# Altium integrated library Altera Arria V GZ.IntLib: 32 symbols (part 9 of 36)
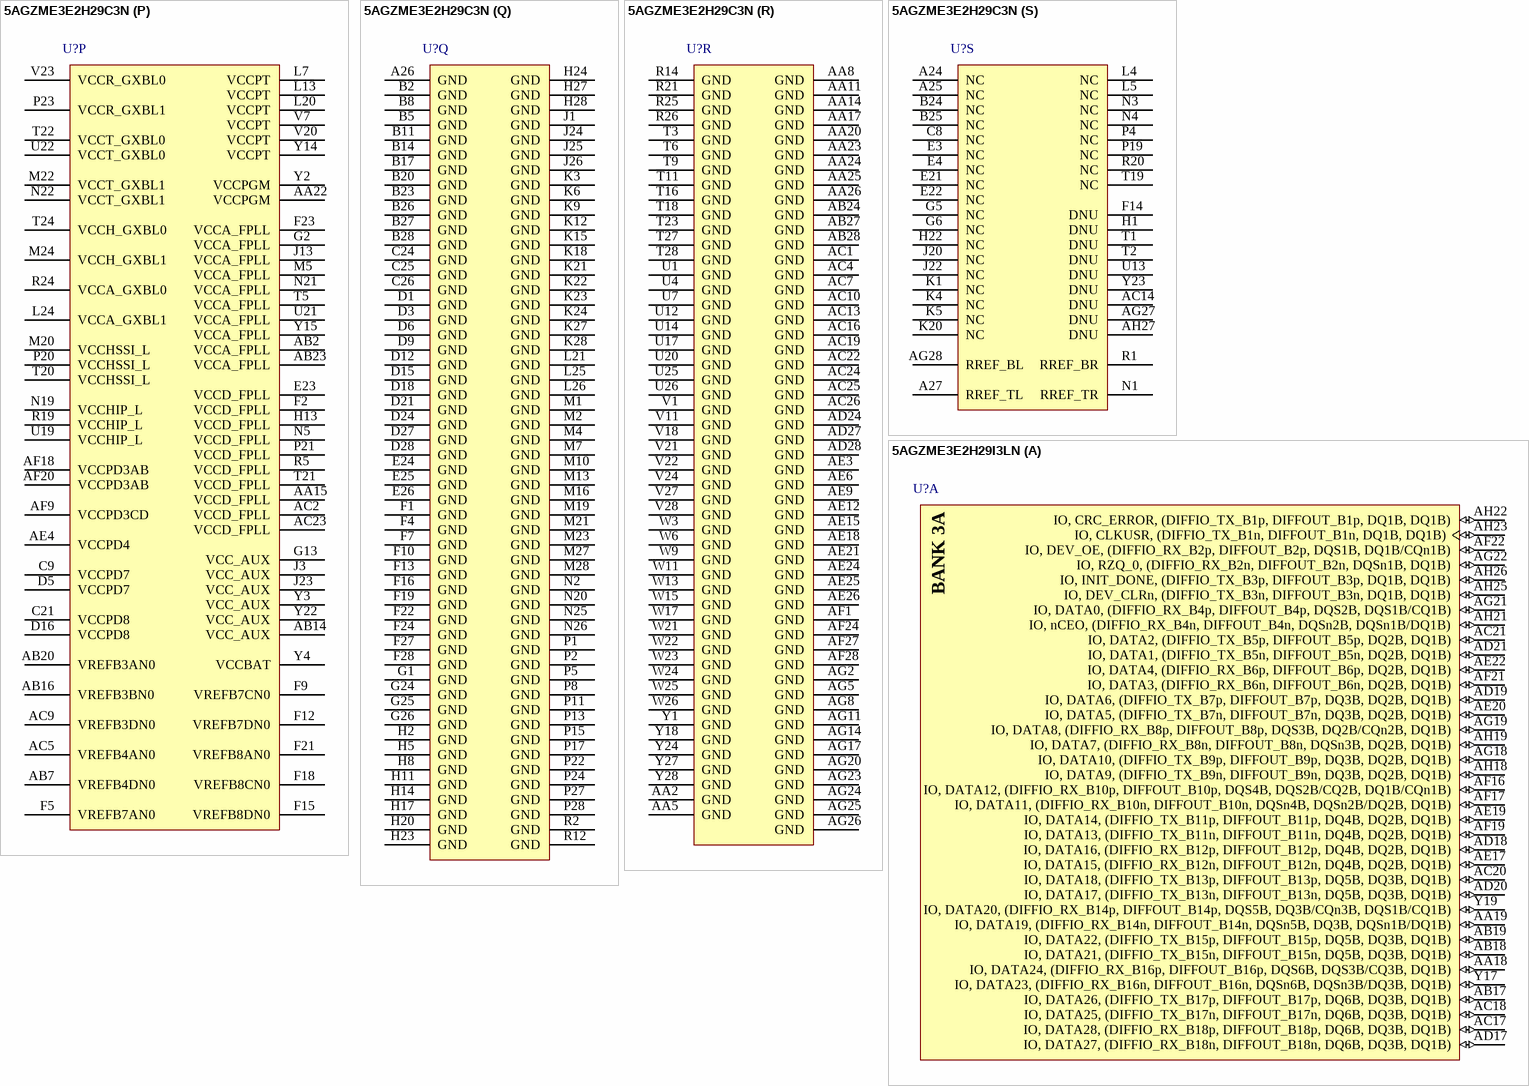
[diagram p209: symbols 5AGZME3E2H29C3N to 5AGZME3E2H29I3LN]

## 5AGZME3E2H29C3N
designator U?
Arria V GZ Family FPGA, 0.82 to 0.88 V Supply, 342 I/O Pins, 20 PLLs, 780-Pin HBGA, Speed Grade 3, Commercial Grade, RoHS Compliant; Manufacturer: Altera; Device Group: 5AGZME3; GPIO: 342; Logic Elements (LE) (K): 360; NexusDeviceID: 5AGZME3E2H29C3N; Pb-Free: TRUE; Speed Grade: 3; DatasheetVersion: Rev. 3.5; PackageVersion: Rev. 3.0, 07/2012; PackageReference: HBGA780_A-360; PackageDescription: 780-Pin Hybrid FineLine Ball-Grid Array (HBGA), Body 33 x 33 mm, Pitch 1 mm; Supplier 1: Digi-Key; Supplier Part Number 1: 5AGZME3E2H29C3N-ND; Supplier 2: Mouser; Supplier Part Number 2: 989-5AGZME3E2H29C3N; RoHS: RoHS Compliant; Subcategory: Arria V GZ; Voltage Supply: 0.82 to 0.88 V; Mounting Technology: Surface Mount; Code_JEDEC: MS-034; PartNumber: 5AGZME3E2H29C3N; ComponentLink1Description: Manufacturer URL; ComponentLink1URL: http://www.altera.com; ComponentLink2Description: Datasheet; ComponentLink2URL: http://www.altera.com/literature/hb/arria-v/av_51002.pdf; ComponentLink3Description: Package Specification; ComponentLink3URL: http://www.altera.com/devicepackaging/04R00443-02.pdf; ComponentLink4Description: Device Handbook URL; ComponentLink4URL: http://www.altera.com/literature/hb/arria-v/arriav_handbook.pdf; ComponentLink5Description: Device Overview URL; ComponentLink5URL: http://www.altera.com/literature/hb/arria-v/av_51001.pdf; ComponentLink6Description: Device Pin-Out URL; ComponentLink6URL: http://www.altera.com/literature/dp/arria-v/5AGZME3.xls; ComponentLink7Description: Product URL; ComponentLink7URL: http://www.buyaltera.com/scripts/partsearch.dll?Detail&name=5AGZME3E2H29C3N-ND
footprint ALTR-HBGA780_A-360 (BGA, 780-Balls, Body 33x33mm, Pitch 1mm)
part A pins: AA18 IO, DATA24, (DIFFIO_RX_B16p, DIFFOUT_B16p, DQS6B, DQS3B/CQ3B, DQ1B) (io), AA19 IO, DATA19, (DIFFIO_RX_B14n, DIFFOUT_B14n, DQSn5B, DQ3B, DQSn1B/DQ1B) (io), AB17 IO, DATA26, (DIFFIO_TX_B17p, DIFFOUT_B17p, DQ6B, DQ3B, DQ1B) (io), AB18 IO, DATA21, (DIFFIO_TX_B15n, DIFFOUT_B15n, DQ5B, DQ3B, DQ1B) (io), AB19 IO, DATA22, (DIFFIO_TX_B15p, DIFFOUT_B15p, DQ5B, DQ3B, DQ1B) (io), AC17 IO, DATA28, (DIFFIO_RX_B18p, DIFFOUT_B18p, DQ6B, DQ3B, DQ1B) (io), AC18 IO, DATA25, (DIFFIO_TX_B17n, DIFFOUT_B17n, DQ6B, DQ3B, DQ1B) (io), AC20 IO, DATA18, (DIFFIO_TX_B13p, DIFFOUT_B13p, DQ5B, DQ3B, DQ1B) (io), AC21 IO, DATA2, (DIFFIO_TX_B5p, DIFFOUT_B5p, DQ2B, DQ1B) (io), AD17 IO, DATA27, (DIFFIO_RX_B18n, DIFFOUT_B18n, DQ6B, DQ3B, DQ1B) (io), AD18 IO, DATA16, (DIFFIO_RX_B12p, DIFFOUT_B12p, DQ4B, DQ2B, DQ1B) (io), AD19 IO, DATA6, (DIFFIO_TX_B7p, DIFFOUT_B7p, DQ3B, DQ2B, DQ1B) (io), AD20 IO, DATA17, (DIFFIO_TX_B13n, DIFFOUT_B13n, DQ5B, DQ3B, DQ1B) (io), AD21 IO, DATA1, (DIFFIO_TX_B5n, DIFFOUT_B5n, DQ2B, DQ1B) (io), AE17 IO, DATA15, (DIFFIO_RX_B12n, DIFFOUT_B12n, DQ4B, DQ2B, DQ1B) (io), AE19 IO, DATA14, (DIFFIO_TX_B11p, DIFFOUT_B11p, DQ4B, DQ2B, DQ1B) (io), AE20 IO, DATA5, (DIFFIO_TX_B7n, DIFFOUT_B7n, DQ3B, DQ2B, DQ1B) (io), AE22 IO, DATA4, (DIFFIO_RX_B6p, DIFFOUT_B6p, DQ2B, DQ1B) (io), AF16 IO, DATA12, (DIFFIO_RX_B10p, DIFFOUT_B10p, DQS4B, DQS2B/CQ2B, DQ1B/CQn1B) (io), AF17 IO, DATA11, (DIFFIO_RX_B10n, DIFFOUT_B10n, DQSn4B, DQSn2B/DQ2B, DQ1B) (io), AF19 IO, DATA13, (DIFFIO_TX_B11n, DIFFOUT_B11n, DQ4B, DQ2B, DQ1B) (io), AF21 IO, DATA3, (DIFFIO_RX_B6n, DIFFOUT_B6n, DQ2B, DQ1B) (io), AF22 IO, DEV_OE, (DIFFIO_RX_B2p, DIFFOUT_B2p, DQS1B, DQ1B/CQn1B) (io), AG18 IO, DATA10, (DIFFIO_TX_B9p, DIFFOUT_B9p, DQ3B, DQ2B, DQ1B) (io), AG19 IO, DATA8, (DIFFIO_RX_B8p, DIFFOUT_B8p, DQS3B, DQ2B/CQn2B, DQ1B) (io), AG21 IO, DATA0, (DIFFIO_RX_B4p, DIFFOUT_B4p, DQS2B, DQS1B/CQ1B) (io), AG22 IO, RZQ_0, (DIFFIO_RX_B2n, DIFFOUT_B2n, DQSn1B, DQ1B) (io), AH18 IO, DATA9, (DIFFIO_TX_B9n, DIFFOUT_B9n, DQ3B, DQ2B, DQ1B) (io), AH19 IO, DATA7, (DIFFIO_RX_B8n, DIFFOUT_B8n, DQSn3B, DQ2B, DQ1B) (io), AH21 IO, nCEO, (DIFFIO_RX_B4n, DIFFOUT_B4n, DQSn2B, DQSn1B/DQ1B) (io), AH22 IO, CRC_ERROR, (DIFFIO_TX_B1p, DIFFOUT_B1p, DQ1B, DQ1B) (io), AH23 IO, CLKUSR, (DIFFIO_TX_B1n, DIFFOUT_B1n, DQ1B, DQ1B) (io), AH25 IO, DEV_CLRn, (DIFFIO_TX_B3n, DIFFOUT_B3n, DQ1B, DQ1B) (io), AH26 IO, INIT_DONE, (DIFFIO_TX_B3p, DIFFOUT_B3p, DQ1B, DQ1B) (io), Y17 IO, DATA23, (DIFFIO_RX_B16n, DIFFOUT_B16n, DQSn6B, DQSn3B/DQ3B, DQ1B) (io), Y19 IO, DATA20, (DIFFIO_RX_B14p, DIFFOUT_B14p, DQS5B, DQ3B/CQn3B, DQS1B/CQ1B) (io)
part B pins: AA10 IO, (DIFFIO_RX_B42p, DIFFOUT_B42p, DQ14B, DQ7B, DQ3B, DQ1B) (io), AA12 IO, (DIFFIO_TX_B37p, DIFFOUT_B37p, DQ13B, DQ7B, DQ3B, DQ1B) (io), AA13 IO, (DIFFIO_TX_B35p, DIFFOUT_B35p, DQ12B, DQ6B, DQ3B, DQ1B) (io), AA16 IO, (DIFFIO_TX_B31p, DIFFOUT_B31p, DQ11B, DQ6B, DQ3B, DQ1B) (io), AB10 IO, (DIFFIO_RX_B40n, DIFFOUT_B40n, DQSn14B, DQSn7B/DQ7B, DQ3B, DQ1B) (io), AB11 IO, (DIFFIO_RX_B40p, DIFFOUT_B40p, DQS14B, DQS7B/CQ7B, DQ3B, DQ1B) (io), AB12 IO, (DIFFIO_RX_B36n, DIFFOUT_B36n, DQ12B, DQ6B, DQ3B, DQ1B) (io), AB13 IO, (DIFFIO_RX_B36p, DIFFOUT_B36p, DQ12B, DQ6B, DQ3B, DQ1B) (io), AB15 IO, (DIFFIO_RX_B32p, DIFFOUT_B32p, DQS11B, DQ6B/CQn6B, DQ3B, DQS1B/CQ1B) (io), AC11 IO, (DIFFIO_TX_B39p, DIFFOUT_B39p, DQ13B, DQ7B, DQ3B, DQ1B) (io), AC12 IO, (DIFFIO_RX_B38p, DIFFOUT_B38p, DQS13B, DQ7B/CQn7B, DQS3B/CQ3B, DQ1B) (io), AC15 IO, (DIFFIO_RX_B32n, DIFFOUT_B32n, DQSn11B, DQ6B, DQ3B, DQSn1B/DQ1B) (io), AD9 IO, (DIFFIO_TX_B41n, DIFFOUT_B41n, DQ14B, DQ7B, DQ3B, DQ1B) (io), AD10 IO, (DIFFIO_TX_B41p, DIFFOUT_B41p, DQ14B, DQ7B, DQ3B, DQ1B) (io), AD11 IO, (DIFFIO_TX_B39n, DIFFOUT_B39n, DQ13B, DQ7B, DQ3B, DQ1B) (io), AD12 IO, (DIFFIO_RX_B38n, DIFFOUT_B38n, DQSn13B, DQ7B, DQSn3B/DQ3B, DQ1B) (io), AD13 IO, (DIFFIO_RX_B34p, DIFFOUT_B34p, DQS12B, DQS6B/CQ6B, DQ3B/CQn3B, DQ1B) (io), AD14 IO, (DIFFIO_RX_B34n, DIFFOUT_B34n, DQSn12B, DQSn6B/DQ6B, DQ3B, DQ1B) (io), AD15 IO, (DIFFIO_TX_B33p, DIFFOUT_B33p, DQ11B, DQ6B, DQ3B, DQ1B) (io), AD16 IO, (DIFFIO_TX_B33n, DIFFOUT_B33n, DQ11B, DQ6B, DQ3B, DQ1B) (io), AE10 IO, CLK2n, (DIFFIO_RX_B28n, DIFFOUT_B28n, DQSn10B, DQSn5B/DQ5B, DQ2B, DQ1B) (io), AE11 IO, CLK2p, (DIFFIO_RX_B28p, DIFFOUT_B28p, DQS10B, DQS5B/CQ5B, DQ2B, DQ1B/CQn1B) (io), AE13 IO, CLK0p, (DIFFIO_RX_B22p, DIFFOUT_B22p, DQS8B, DQS4B/CQ4B, DQ2B/CQn2B, DQ1B) (io), AE14 IO, CLK1p, (DIFFIO_RX_B24p, DIFFOUT_B24p, DQ8B, DQ4B, DQ2B, DQ1B) (io), AE16 IO, CvP_CONFDONE, (DIFFIO_TX_B23p, DIFFOUT_B23p, DQ8B, DQ4B, DQ2B, DQ1B) (io), AF10 IO, (DIFFIO_TX_B29p, DIFFOUT_B29p, DQ10B, DQ5B, DQ2B, DQ1B) (io), AF11 IO, FPLL_BL_CLKOUT3, FPLL_BL_FBn, (DIFFIO_RX_B26n, DIFFOUT_B26n, DQSn9B, DQ5B, DQSn2B/DQ2B, DQ1B) (io), AF12 IO, FPLL_BL_CLKOUT2, FPLL_BL_FBp, FPLL_BL_FB1, (DIFFIO_RX_B26p, DIFFOUT_B26p, DQS9B, DQ5B/CQn5B, DQS2B/CQ2B, DQ1B) (io), AF13 IO, CLK0n, (DIFFIO_RX_B22n, DIFFOUT_B22n, DQSn8B, DQSn4B/DQ4B, DQ2B, DQ1B) (io), AF14 IO, CLK1n, (DIFFIO_RX_B24n, DIFFOUT_B24n, DQ8B, DQ4B, DQ2B, DQ1B) (io), AF15 IO, PR_ERROR, (DIFFIO_TX_B23n, DIFFOUT_B23n, DQ8B, DQ4B, DQ2B, DQ1B) (io), AG9 IO, CLK3p, (DIFFIO_RX_B30p, DIFFOUT_B30p, DQ10B, DQ5B, DQ2B, DQ1B) (io), AG10 IO, (DIFFIO_TX_B29n, DIFFOUT_B29n, DQ10B, DQ5B, DQ2B, DQ1B) (io), AG12 IO, FPLL_BL_CLKOUT0, FPLL_BL_CLKOUTp, FPLL_BL_FB0, (DIFFIO_TX_B25p, DIFFOUT_B25p, DQ9B, DQ5B, DQ2B, DQ1B) (io), AG13 IO, PR_READY, (DIFFIO_TX_B21p, DIFFOUT_B21p, DQ7B, DQ4B, DQ2B, DQ1B) (io), AG15 IO, PR_DONE, (DIFFIO_RX_B20p, DIFFOUT_B20p, DQS7B, DQ4B/CQn4B, DQ2B, DQ1B) (io), AG16 IO, DATA30, (DIFFIO_TX_B19p, DIFFOUT_B19p, DQ7B, DQ4B, DQ2B, DQ1B) (io), AH9 IO, CLK3n, (DIFFIO_RX_B30n, DIFFOUT_B30n, DQ10B, DQ5B, DQ2B, DQ1B) (io), AH10 IO, (DIFFIO_TX_B27p, DIFFOUT_B27p, DQ9B, DQ5B, DQ2B, DQ1B) (io), AH11 IO, nPERSTL0, (DIFFIO_TX_B27n, DIFFOUT_B27n, DQ9B, DQ5B, DQ2B, DQ1B) (io), AH12 IO, FPLL_BL_CLKOUT1, FPLL_BL_CLKOUTn, (DIFFIO_TX_B25n, DIFFOUT_B25n, DQ9B, DQ5B, DQ2B, DQ1B) (io), AH13 IO, PR_REQUEST, (DIFFIO_TX_B21n, DIFFOUT_B21n, DQ7B, DQ4B, DQ2B, DQ1B) (io), AH15 IO, DATA31, (DIFFIO_RX_B20n, DIFFOUT_B20n, DQSn7B, DQ4B, DQ2B, DQ1B) (io), AH16 IO, DATA29, (DIFFIO_TX_B19n, DIFFOUT_B19n, DQ7B, DQ4B, DQ2B, DQ1B) (io), Y11 IO, (DIFFIO_RX_B42n, DIFFOUT_B42n, DQ14B, DQ7B, DQ3B, DQ1B) (io), Y12 IO, (DIFFIO_TX_B37n, DIFFOUT_B37n, DQ13B, DQ7B, DQ3B, DQ1B) (io), Y13 IO, (DIFFIO_TX_B35n, DIFFOUT_B35n, DQ12B, DQ6B, DQ3B, DQ1B) (io), Y16 IO, (DIFFIO_TX_B31n, DIFFOUT_B31n, DQ11B, DQ6B, DQ3B, DQ1B) (io)
part C pins: AA9 IO, (DIFFIO_TX_B75p, DIFFOUT_B75p, DQ25B, DQ9B, DQ4B) (io), AB8 IO, (DIFFIO_RX_B70p, DIFFOUT_B70p, DQS24B, DQS8B/CQ8B, DQ4B/CQn4B) (io), AB9 IO, (DIFFIO_TX_B75n, DIFFOUT_B75n, DQ25B, DQ9B, DQ4B) (io), AC8 IO, (DIFFIO_RX_B70n, DIFFOUT_B70n, DQSn24B, DQSn8B/DQ8B, DQ4B) (io), AD7 IO, (DIFFIO_RX_B72p, DIFFOUT_B72p, DQ24B, DQ8B, DQ4B) (io), AD8 IO, (DIFFIO_TX_B71p, DIFFOUT_B71p, DQ24B, DQ8B, DQ4B) (io), AE7 IO, (DIFFIO_RX_B72n, DIFFOUT_B72n, DQ24B, DQ8B, DQ4B) (io), AE8 IO, (DIFFIO_TX_B71n, DIFFOUT_B71n, DQ24B, DQ8B, DQ4B) (io), AF7 IO, (DIFFIO_RX_B68n, DIFFOUT_B68n, DQSn23B, DQ8B, DQ4B) (io), AF8 IO, (DIFFIO_RX_B68p, DIFFOUT_B68p, DQS23B, DQ8B/CQn8B, DQ4B) (io), AG6 IO, (DIFFIO_TX_B67p, DIFFOUT_B67p, DQ23B, DQ8B, DQ4B) (io), AG7 IO, (DIFFIO_TX_B69p, DIFFOUT_B69p, DQ23B, DQ8B, DQ4B) (io), AH6 IO, (DIFFIO_TX_B67n, DIFFOUT_B67n, DQ23B, DQ8B, DQ4B) (io), AH7 IO, (DIFFIO_TX_B69n, DIFFOUT_B69n, DQ23B, DQ8B, DQ4B) (io), U8 IO, (DIFFIO_RX_B74p, DIFFOUT_B74p, DQS25B, DQ9B/CQn9B, DQS4B/CQ4B) (io), U9 IO, CLK4p, (DIFFIO_RX_B76p, DIFFOUT_B76p, DQS26B, DQS9B/CQ9B, DQ4B) (io), V8 IO, (DIFFIO_RX_B74n, DIFFOUT_B74n, DQSn25B, DQ9B, DQSn4B/DQ4B) (io), V9 IO, CLK4n, (DIFFIO_RX_B76n, DIFFOUT_B76n, DQSn26B, DQSn9B/DQ9B, DQ4B) (io), V10 IO, CLK5n, (DIFFIO_RX_B78n, DIFFOUT_B78n, DQ26B, DQ9B, DQ4B) (io), W8 IO, (DIFFIO_TX_B73n, DIFFOUT_B73n, DQ25B, DQ9B, DQ4B) (io), W10 IO, CLK5p, (DIFFIO_RX_B78p, DIFFOUT_B78p, DQ26B, DQ9B, DQ4B) (io), Y8 IO, (DIFFIO_TX_B73p, DIFFOUT_B73p, DQ25B, DQ9B, DQ4B) (io), Y9 IO, (DIFFIO_TX_B77p, DIFFOUT_B77p, DQ26B, DQ9B, DQ4B) (io), Y10 IO, (DIFFIO_TX_B77n, DIFFOUT_B77n, DQ26B, DQ9B, DQ4B) (io)
part D pins: AA3 IO, CLK10p, (DIFFIO_RX_B154p, DIFFOUT_B154p, DQS52B, DQS12B/CQ12B, DQ6B/CQn6B) (io), AA4 IO, CLK10n, (DIFFIO_RX_B154n, DIFFOUT_B154n, DQSn52B, DQSn12B/DQ12B, DQ6B) (io), AB3 IO, FPLL_BR_CLKOUT3, FPLL_BR_FBn, (DIFFIO_RX_B156n, DIFFOUT_B156n, DQ52B, DQ12B, DQ6B) (io), AB4 IO, FPLL_BR_CLKOUT2, FPLL_BR_FBp, FPLL_BR_FB1, (DIFFIO_RX_B156p, DIFFOUT_B156p, DQ52B, DQ12B, DQ6B) (io), AC3 IO, RZQ_1, (DIFFIO_RX_B162p, DIFFOUT_B162p, DQ54B, DQ13B, DQ6B) (io), AD2 IO, (DIFFIO_TX_B161n, DIFFOUT_B161n, DQ54B, DQ13B, DQ6B) (io), AD3 IO, (DIFFIO_TX_B161p, DIFFOUT_B161p, DQ54B, DQ13B, DQ6B) (io), AD4 IO, (DIFFIO_RX_B162n, DIFFOUT_B162n, DQ54B, DQ13B, DQ6B) (io), AE1 IO, CLK8p, (DIFFIO_RX_B160p, DIFFOUT_B160p, DQS54B, DQS13B/CQ13B, DQ6B) (io), AE2 IO, CLK8n, (DIFFIO_RX_B160n, DIFFOUT_B160n, DQSn54B, DQSn13B/DQ13B, DQ6B) (io), AF2 IO, CLK9p, (DIFFIO_RX_B158p, DIFFOUT_B158p, DQS53B, DQ13B/CQn13B, DQS6B/CQ6B) (io), AF3 IO, (DIFFIO_TX_B159p, DIFFOUT_B159p, DQ53B, DQ13B, DQ6B) (io), AG1 IO, CLK9n, (DIFFIO_RX_B158n, DIFFOUT_B158n, DQSn53B, DQ13B, DQSn6B/DQ6B) (io), AG3 IO, (DIFFIO_TX_B159n, DIFFOUT_B159n, DQ53B, DQ13B, DQ6B) (io), AH2 IO, (DIFFIO_TX_B157n, DIFFOUT_B157n, DQ53B, DQ13B, DQ6B) (io), AH3 IO, (DIFFIO_TX_B157p, DIFFOUT_B157p, DQ53B, DQ13B, DQ6B) (io), R4 IO, (DIFFIO_TX_B153n, DIFFOUT_B153n, DQ51B, DQ12B, DQ6B) (io), T4 IO, (DIFFIO_TX_B153p, DIFFOUT_B153p, DQ51B, DQ12B, DQ6B) (io), U5 IO, CLK11p, (DIFFIO_RX_B152p, DIFFOUT_B152p, DQS51B, DQ12B/CQn12B, DQ6B) (io), V3 IO, FPLL_BR_CLKOUT1, FPLL_BR_CLKOUTn, (DIFFIO_TX_B155n, DIFFOUT_B155n, DQ52B, DQ12B, DQ6B) (io), V4 IO, FPLL_BR_CLKOUT0, FPLL_BR_CLKOUTp, FPLL_BR_FB0, (DIFFIO_TX_B155p, DIFFOUT_B155p, DQ52B, DQ12B, DQ6B) (io), V5 IO, CLK11n, (DIFFIO_RX_B152n, DIFFOUT_B152n, DQSn51B, DQ12B, DQ6B) (io), W4 IO, (DIFFIO_TX_B151p, DIFFOUT_B151p, DQ51B, DQ12B, DQ6B) (io), W5 IO, (DIFFIO_TX_B151n, DIFFOUT_B151n, DQ51B, DQ12B, DQ6B) (io)
part E pins: AA6 IO, FPLL_BC_CLKOUT0, FPLL_BC_CLKOUTp, FPLL_BC_FB0, (DIFFIO_TX_B91p, DIFFOUT_B91p, DQ31B, DQ10B, DQ5B) (io), AA7 IO, (DIFFIO_TX_B101n, DIFFOUT_B101n, DQ34B, DQ11B, DQ5B) (io), AB5 IO, FPLL_BC_CLKOUT2, FPLL_BC_FBp, FPLL_BC_FB1, (DIFFIO_RX_B92p, DIFFOUT_B92p, DQS31B, DQ10B/CQn10B, DQ5B) (io), AB6 IO, FPLL_BC_CLKOUT1, FPLL_BC_CLKOUTn, (DIFFIO_TX_B91n, DIFFOUT_B91n, DQ31B, DQ10B, DQ5B) (io), AC6 IO, FPLL_BC_CLKOUT3, FPLL_BC_FBn, (DIFFIO_RX_B92n, DIFFOUT_B92n, DQSn31B, DQ10B, DQ5B) (io), AD5 IO, (DIFFIO_TX_B95n, DIFFOUT_B95n, DQ32B, DQ10B, DQ5B) (io), AD6 IO, (DIFFIO_TX_B95p, DIFFOUT_B95p, DQ32B, DQ10B, DQ5B) (io), AE5 IO, CLK7p, (DIFFIO_RX_B96p, DIFFOUT_B96p, DQ32B, DQ10B, DQ5B) (io), AF4 IO, CLK7n, (DIFFIO_RX_B96n, DIFFOUT_B96n, DQ32B, DQ10B, DQ5B) (io), AF5 IO, (DIFFIO_TX_B93p, DIFFOUT_B93p, DQ31B, DQ10B, DQ5B) (io), AF6 IO, (DIFFIO_TX_B93n, DIFFOUT_B93n, DQ31B, DQ10B, DQ5B) (io), AG4 IO, CLK6p, (DIFFIO_RX_B94p, DIFFOUT_B94p, DQS32B, DQS10B/CQ10B, DQ5B/CQn5B) (io), AH4 IO, CLK6n, (DIFFIO_RX_B94n, DIFFOUT_B94n, DQSn32B, DQSn10B/DQ10B, DQ5B) (io), N6 IO, (DIFFIO_TX_B99p, DIFFOUT_B99p, DQ33B, DQ11B, DQ5B) (io), P6 IO, (DIFFIO_TX_B99n, DIFFOUT_B99n, DQ33B, DQ11B, DQ5B) (io), R6 IO, (DIFFIO_TX_B97n, DIFFOUT_B97n, DQ33B, DQ11B, DQ5B) (io), R7 IO, (DIFFIO_TX_B97p, DIFFOUT_B97p, DQ33B, DQ11B, DQ5B) (io), T7 IO, (DIFFIO_RX_B98p, DIFFOUT_B98p, DQS33B, DQ11B/CQn11B, DQS5B/CQ5B) (io), U6 IO, (DIFFIO_RX_B98n, DIFFOUT_B98n, DQSn33B, DQ11B, DQSn5B/DQ5B) (io), V6 IO, (DIFFIO_RX_B100n, DIFFOUT_B100n, DQSn34B, DQSn11B/DQ11B, DQ5B) (io), W7 IO, (DIFFIO_RX_B100p, DIFFOUT_B100p, DQS34B, DQS11B/CQ11B, DQ5B) (io), Y5 IO, (DIFFIO_RX_B102n, DIFFOUT_B102n, DQ34B, DQ11B, DQ5B) (io), Y6 IO, (DIFFIO_RX_B102p, DIFFOUT_B102p, DQ34B, DQ11B, DQ5B) (io), Y7 IO, (DIFFIO_TX_B101p, DIFFOUT_B101p, DQ34B, DQ11B, DQ5B) (io)
part F pins: E2 IO, CLK13p, (DIFFIO_RX_T5p, DIFFOUT_T5p) (io), F3 IO, CLK13n, (DIFFIO_RX_T5n, DIFFOUT_T5n) (io), G3 IO, (DIFFIO_RX_T1n, DIFFOUT_T1n, DQ1T) (io), G4 IO, RZQ_4, (DIFFIO_RX_T1p, DIFFOUT_T1p, DQ1T) (io), H3 IO, CLK12p, (DIFFIO_RX_T3p, DIFFOUT_T3p, DQS1T) (io), H4 IO, CLK12n, (DIFFIO_RX_T3n, DIFFOUT_T3n, DQSn1T) (io), H6 IO, (DIFFIO_TX_T2p, DIFFOUT_T2p, DQ1T) (io), J4 IO, FPLL_TR_CLKOUT2, FPLL_TR_FBp, FPLL_TR_FB1, (DIFFIO_RX_T7p, DIFFOUT_T7p, DQ3T) (io), J5 IO, FPLL_TR_CLKOUT3, FPLL_TR_FBn, (DIFFIO_RX_T7n, DIFFOUT_T7n, DQ3T) (io), J6 IO, (DIFFIO_TX_T2n, DIFFOUT_T2n, DQ1T) (io), L1 IO, FPLL_TR_CLKOUT0, FPLL_TR_CLKOUTp, FPLL_TR_FB0, (DIFFIO_TX_T8p, DIFFOUT_T8p, DQ3T) (io), L2 IO, FPLL_TR_CLKOUT1, FPLL_TR_CLKOUTn, (DIFFIO_TX_T8n, DIFFOUT_T8n, DQ3T) (io), L3 IO, CLK14p, (DIFFIO_RX_T9p, DIFFOUT_T9p, DQS3T) (io), L6 IO, CLK15p, (DIFFIO_RX_T11p, DIFFOUT_T11p) (io), M3 IO, CLK14n, (DIFFIO_RX_T9n, DIFFOUT_T9n, DQSn3T) (io), M6 IO, CLK15n, (DIFFIO_RX_T11n, DIFFOUT_T11n) (io)
part G pins: A3 IO, (DIFFIO_RX_T47n, DIFFOUT_T47n, DQSn16T, DQ4T, DQ2T, DQSn1T/DQ1T) (io), A4 IO, (DIFFIO_TX_T48n, DIFFOUT_T48n, DQ16T, DQ4T, DQ2T, DQ1T) (io), A6 IO, (DIFFIO_RX_T51n, DIFFOUT_T51n, DQSn17T, DQSn5T/DQ5T, DQ3T, DQ1T) (io), A7 IO, (DIFFIO_TX_T52n, DIFFOUT_T52n, DQ18T, DQ5T, DQ3T, DQ1T) (io), B1 IO, (DIFFIO_TX_T44n, DIFFOUT_T44n, DQ15T, DQ4T, DQ2T, DQ1T) (io), B3 IO, (DIFFIO_RX_T47p, DIFFOUT_T47p, DQS16T, DQ4T/CQn4T, DQ2T, DQS1T/CQ1T) (io), B4 IO, (DIFFIO_TX_T48p, DIFFOUT_T48p, DQ16T, DQ4T, DQ2T, DQ1T) (io), B6 IO, (DIFFIO_RX_T51p, DIFFOUT_T51p, DQS17T, DQS5T/CQ5T, DQ3T, DQ1T/CQn1T) (io), B7 IO, (DIFFIO_TX_T52p, DIFFOUT_T52p, DQ18T, DQ5T, DQ3T, DQ1T) (io), C1 IO, (DIFFIO_TX_T44p, DIFFOUT_T44p, DQ15T, DQ4T, DQ2T, DQ1T) (io), C2 IO, (DIFFIO_RX_T43n, DIFFOUT_T43n, DQ15T, DQ4T, DQ2T, DQ1T) (io), C3 IO, (DIFFIO_RX_T45n, DIFFOUT_T45n, DQSn15T, DQSn4T/DQ4T, DQ2T, DQ1T) (io), C4 IO, (DIFFIO_TX_T46p, DIFFOUT_T46p, DQ16T, DQ4T, DQ2T, DQ1T) (io), C5 IO, (DIFFIO_TX_T46n, DIFFOUT_T46n, DQ16T, DQ4T, DQ2T, DQ1T) (io), C6 IO, (DIFFIO_TX_T50p, DIFFOUT_T50p, DQ17T, DQ5T, DQ3T, DQ1T) (io), C7 IO, (DIFFIO_TX_T50n, DIFFOUT_T50n, DQ17T, DQ5T, DQ3T, DQ1T) (io), D2 IO, (DIFFIO_RX_T43p, DIFFOUT_T43p, DQ15T, DQ4T, DQ2T, DQ1T) (io), D4 IO, (DIFFIO_RX_T45p, DIFFOUT_T45p, DQS15T, DQS4T/CQ4T, DQ2T/CQn2T, DQ1T) (io), D7 IO, (DIFFIO_TX_T54p, DIFFOUT_T54p, DQ18T, DQ5T, DQ3T, DQ1T) (io), D8 IO, (DIFFIO_TX_T54n, DIFFOUT_T54n, DQ18T, DQ5T, DQ3T, DQ1T) (io), E5 IO, (DIFFIO_RX_T49n, DIFFOUT_T49n, DQ17T, DQ5T, DQ3T, DQ1T) (io), E6 IO, (DIFFIO_RX_T53n, DIFFOUT_T53n, DQSn18T, DQ5T, DQSn3T/DQ3T, DQ1T) (io), E7 IO, (DIFFIO_RX_T53p, DIFFOUT_T53p, DQS18T, DQ5T/CQn5T, DQS3T/CQ3T, DQ1T) (io), E8 IO, (DIFFIO_RX_T37n, DIFFOUT_T37n, DQ13T, DQ3T, DQ2T, DQ1T) (io), F6 IO, (DIFFIO_RX_T49p, DIFFOUT_T49p, DQ17T, DQ5T, DQ3T, DQ1T) (io), F8 IO, (DIFFIO_RX_T37p, DIFFOUT_T37p, DQ13T, DQ3T, DQ2T, DQ1T) (io), G7 IO, (DIFFIO_RX_T39p, DIFFOUT_T39p, DQS13T, DQS3T/CQ3T, DQ2T, DQ1T) (io), G8 IO, (DIFFIO_RX_T39n, DIFFOUT_T39n, DQSn13T, DQSn3T/DQ3T, DQ2T, DQ1T) (io), G9 IO, (DIFFIO_TX_T38n, DIFFOUT_T38n, DQ13T, DQ3T, DQ2T, DQ1T) (io), H7 IO, (DIFFIO_TX_T40p, DIFFOUT_T40p, DQ14T, DQ3T, DQ2T, DQ1T) (io), H9 IO, (DIFFIO_TX_T38p, DIFFOUT_T38p, DQ13T, DQ3T, DQ2T, DQ1T) (io), J7 IO, (DIFFIO_TX_T40n, DIFFOUT_T40n, DQ14T, DQ3T, DQ2T, DQ1T) (io), J8 IO, (DIFFIO_TX_T42n, DIFFOUT_T42n, DQ14T, DQ3T, DQ2T, DQ1T) (io), J9 IO, (DIFFIO_TX_T42p, DIFFOUT_T42p, DQ14T, DQ3T, DQ2T, DQ1T) (io), K7 IO, (DIFFIO_RX_T41p, DIFFOUT_T41p, DQS14T, DQ3T/CQn3T, DQS2T/CQ2T, DQ1T) (io), K8 IO, (DIFFIO_RX_T41n, DIFFOUT_T41n, DQSn14T, DQ3T, DQSn2T/DQ2T, DQ1T) (io), L8 IO, (DIFFIO_RX_T55n, DIFFOUT_T55n, DQ19T, DQ6T, DQ3T, DQ1T) (io), L9 IO, (DIFFIO_TX_T56n, DIFFOUT_T56n, DQ19T, DQ6T, DQ3T, DQ1T) (io), M8 IO, (DIFFIO_RX_T55p, DIFFOUT_T55p, DQ19T, DQ6T, DQ3T, DQ1T) (io), M9 IO, (DIFFIO_TX_T56p, DIFFOUT_T56p, DQ19T, DQ6T, DQ3T, DQ1T) (io), N7 IO, (DIFFIO_RX_T57p, DIFFOUT_T57p, DQS19T, DQS6T/CQ6T, DQ3T/CQn3T, DQ1T) (io), N8 IO, (DIFFIO_RX_T57n, DIFFOUT_T57n, DQSn19T, DQSn6T/DQ6T, DQ3T, DQ1T) (io), N9 IO, (DIFFIO_RX_T59n, DIFFOUT_T59n, DQSn20T, DQ6T, DQ3T, DQ1T) (io), P7 IO, (DIFFIO_TX_T58n, DIFFOUT_T58n, DQ20T, DQ6T, DQ3T, DQ1T) (io), P9 IO, (DIFFIO_RX_T59p, DIFFOUT_T59p, DQS20T, DQ6T/CQn6T, DQ3T, DQ1T) (io), R8 IO, (DIFFIO_TX_T58p, DIFFOUT_T58p, DQ20T, DQ6T, DQ3T, DQ1T) (io), R9 IO, (DIFFIO_TX_T60n, DIFFOUT_T60n, DQ20T, DQ6T, DQ3T, DQ1T) (io), T8 IO, (DIFFIO_TX_T60p, DIFFOUT_T60p, DQ20T, DQ6T, DQ3T, DQ1T) (io)
part H pins: A9 IO, (DIFFIO_TX_T68n, DIFFOUT_T68n, DQ23T, DQ8T, DQ4T) (io), A10 IO, (DIFFIO_TX_T70n, DIFFOUT_T70n, DQ24T, DQ8T, DQ4T) (io), B9 IO, (DIFFIO_TX_T68p, DIFFOUT_T68p, DQ23T, DQ8T, DQ4T) (io), B10 IO, (DIFFIO_TX_T70p, DIFFOUT_T70p, DQ24T, DQ8T, DQ4T) (io), C10 IO, CLK18n, (DIFFIO_RX_T69n, DIFFOUT_T69n, DQSn23T, DQSn8T/DQ8T, DQ4T) (io), C11 IO, FPLL_TC_CLKOUT1, FPLL_TC_CLKOUTn, (DIFFIO_TX_T72n, DIFFOUT_T72n, DQ24T, DQ8T, DQ4T) (io), D10 IO, CLK18p, (DIFFIO_RX_T69p, DIFFOUT_T69p, DQS23T, DQS8T/CQ8T, DQ4T/CQn4T) (io), D11 IO, FPLL_TC_CLKOUT0, FPLL_TC_CLKOUTp, FPLL_TC_FB0, (DIFFIO_TX_T72p, DIFFOUT_T72p, DQ24T, DQ8T, DQ4T) (io), E9 IO, CLK19n, (DIFFIO_RX_T67n, DIFFOUT_T67n, DQ23T, DQ8T, DQ4T) (io), E10 IO, CLK19p, (DIFFIO_RX_T67p, DIFFOUT_T67p, DQ23T, DQ8T, DQ4T) (io), E11 IO, FPLL_TC_CLKOUT2, FPLL_TC_FBp, FPLL_TC_FB1, (DIFFIO_RX_T71p, DIFFOUT_T71p, DQS24T, DQ8T/CQn8T, DQ4T) (io), F11 IO, FPLL_TC_CLKOUT3, FPLL_TC_FBn, (DIFFIO_RX_T71n, DIFFOUT_T71n, DQSn24T, DQ8T, DQ4T) (io), G10 IO, (DIFFIO_TX_T64n, DIFFOUT_T64n, DQ22T, DQ7T, DQ4T) (io), G11 IO, (DIFFIO_TX_T64p, DIFFOUT_T64p, DQ22T, DQ7T, DQ4T) (io), G12 IO, (DIFFIO_RX_T65n, DIFFOUT_T65n, DQSn22T, DQ7T, DQSn4T/DQ4T) (io), H10 IO, (DIFFIO_RX_T61p, DIFFOUT_T61p, DQ21T, DQ7T, DQ4T) (io), H12 IO, (DIFFIO_RX_T65p, DIFFOUT_T65p, DQS22T, DQ7T/CQn7T, DQS4T/CQ4T) (io), J10 IO, (DIFFIO_RX_T61n, DIFFOUT_T61n, DQ21T, DQ7T, DQ4T) (io), J11 IO, (DIFFIO_TX_T66n, DIFFOUT_T66n, DQ22T, DQ7T, DQ4T) (io), J12 IO, (DIFFIO_TX_T66p, DIFFOUT_T66p, DQ22T, DQ7T, DQ4T) (io), K10 IO, (DIFFIO_TX_T62p, DIFFOUT_T62p, DQ21T, DQ7T, DQ4T) (io), K11 IO, (DIFFIO_RX_T63n, DIFFOUT_T63n, DQSn21T, DQSn7T/DQ7T, DQ4T) (io), K13 IO, (DIFFIO_TX_T76n, DIFFOUT_T76n, DQ26T, DQ9T) (io), L10 IO, (DIFFIO_TX_T62n, DIFFOUT_T62n, DQ21T, DQ7T, DQ4T) (io), L11 IO, (DIFFIO_RX_T63p, DIFFOUT_T63p, DQS21T, DQS7T/CQ7T, DQ4T) (io), L12 IO, (DIFFIO_TX_T76p, DIFFOUT_T76p, DQ26T, DQ9T) (io), M11 IO, (DIFFIO_TX_T74n, DIFFOUT_T74n, DQ25T, DQ9T) (io), M12 IO, (DIFFIO_TX_T78n, DIFFOUT_T78n, DQ26T, DQ9T) (io), N10 IO, (DIFFIO_TX_T74p, DIFFOUT_T74p, DQ25T, DQ9T) (io), N11 IO, (DIFFIO_TX_T78p, DIFFOUT_T78p, DQ26T, DQ9T) (io), N12 IO, (DIFFIO_RX_T77n, DIFFOUT_T77n, DQSn26T, DQ9T) (io), N13 IO, (DIFFIO_RX_T77p, DIFFOUT_T77p, DQS26T, DQ9T/CQn9T) (io), P10 IO, (DIFFIO_RX_T75p, DIFFOUT_T75p, DQS25T, DQS9T/CQ9T) (io), R10 IO, (DIFFIO_RX_T75n, DIFFOUT_T75n, DQSn25T, DQSn9T/DQ9T) (io), T10 IO, (DIFFIO_RX_T73n, DIFFOUT_T73n, DQ25T, DQ9T) (io), U10 IO, (DIFFIO_RX_T73p, DIFFOUT_T73p, DQ25T, DQ9T) (io)
part I pins: A22 IO, CLK20n, (DIFFIO_RX_T153n, DIFFOUT_T153n) (io), B22 IO, CLK20p, (DIFFIO_RX_T153p, DIFFOUT_T153p) (io), C22 IO, CLK21n, (DIFFIO_RX_T151n, DIFFOUT_T151n) (io), C23 IO, RZQ_5, (DIFFIO_RX_T155n, DIFFOUT_T155n) (io), D22 IO, CLK21p, (DIFFIO_RX_T151p, DIFFOUT_T151p) (io), D23 IO, (DIFFIO_RX_T155p, DIFFOUT_T155p) (io), G20 IO, CLK23p, (DIFFIO_RX_T145p, DIFFOUT_T145p) (io), G21 IO, CLK23n, (DIFFIO_RX_T145n, DIFFOUT_T145n) (io), G22 IO, FPLL_TL_CLKOUT2, FPLL_TL_FBp, FPLL_TL_FB1, (DIFFIO_RX_T149p, DIFFOUT_T149p) (io), G23 IO, FPLL_TL_CLKOUT3, FPLL_TL_FBn, (DIFFIO_RX_T149n, DIFFOUT_T149n) (io), H21 IO, FPLL_TL_CLKOUT0, FPLL_TL_CLKOUTp, FPLL_TL_FB0, (DIFFIO_TX_T150p, DIFFOUT_T150p) (io), J21 IO, FPLL_TL_CLKOUT1, FPLL_TL_CLKOUTn, (DIFFIO_TX_T150n, DIFFOUT_T150n) (io), K19 IO, CLK22p, (DIFFIO_RX_T147p, DIFFOUT_T147p) (io), L19 IO, CLK22n, (DIFFIO_RX_T147n, DIFFOUT_T147n) (io)
part J pins: A15 IO, (DIFFIO_RX_T103n, DIFFOUT_T103n, DQ35T, DQ13T, DQ6T, DQ2T) (io), A16 IO, (DIFFIO_RX_T105n, DIFFOUT_T105n, DQSn35T, DQSn13T/DQ13T, DQ6T, DQ2T) (io), A18 IO, (DIFFIO_TX_T108n, DIFFOUT_T108n, DQ36T, DQ13T, DQ6T, DQ2T) (io), A19 IO, (DIFFIO_RX_T109n, DIFFOUT_T109n, DQ37T, DQ14T, DQ7T, DQ2T) (io), A21 IO, (DIFFIO_RX_T111n, DIFFOUT_T111n, DQSn37T, DQSn14T/DQ14T, DQ7T, DQ2T) (io), B15 IO, (DIFFIO_RX_T103p, DIFFOUT_T103p, DQ35T, DQ13T, DQ6T, DQ2T) (io), B16 IO, (DIFFIO_RX_T105p, DIFFOUT_T105p, DQS35T, DQS13T/CQ13T, DQ6T/CQn6T, DQ2T) (io), B18 IO, (DIFFIO_TX_T108p, DIFFOUT_T108p, DQ36T, DQ13T, DQ6T, DQ2T) (io), B19 IO, (DIFFIO_RX_T109p, DIFFOUT_T109p, DQ37T, DQ14T, DQ7T, DQ2T) (io), B21 IO, (DIFFIO_RX_T111p, DIFFOUT_T111p, DQS37T, DQS14T/CQ14T, DQ7T, DQ2T/CQn2T) (io), C15 IO, (DIFFIO_TX_T104p, DIFFOUT_T104p, DQ35T, DQ13T, DQ6T, DQ2T) (io), C16 IO, (DIFFIO_TX_T104n, DIFFOUT_T104n, DQ35T, DQ13T, DQ6T, DQ2T) (io), C17 IO, (DIFFIO_TX_T106n, DIFFOUT_T106n, DQ36T, DQ13T, DQ6T, DQ2T) (io), C18 IO, (DIFFIO_TX_T106p, DIFFOUT_T106p, DQ36T, DQ13T, DQ6T, DQ2T) (io), C19 IO, (DIFFIO_TX_T110n, DIFFOUT_T110n, DQ37T, DQ14T, DQ7T, DQ2T) (io), C20 IO, (DIFFIO_RX_T113p, DIFFOUT_T113p, DQS38T, DQ14T/CQn14T, DQS7T/CQ7T, DQ2T) (io), D17 IO, (DIFFIO_RX_T107n, DIFFOUT_T107n, DQSn36T, DQ13T, DQ6T, DQSn2T/DQ2T) (io), D19 IO, (DIFFIO_TX_T110p, DIFFOUT_T110p, DQ37T, DQ14T, DQ7T, DQ2T) (io), D20 IO, (DIFFIO_RX_T113n, DIFFOUT_T113n, DQSn38T, DQ14T, DQSn7T/DQ7T, DQ2T) (io), E15 IO, (DIFFIO_TX_T102n, DIFFOUT_T102n, DQ34T, DQ12T, DQ6T, DQ2T) (io), E16 IO, (DIFFIO_TX_T102p, DIFFOUT_T102p, DQ34T, DQ12T, DQ6T, DQ2T) (io), E17 IO, (DIFFIO_RX_T107p, DIFFOUT_T107p, DQS36T, DQ13T/CQn13T, DQ6T, DQS2T/CQ2T) (io), E18 IO, (DIFFIO_TX_T112p, DIFFOUT_T112p, DQ38T, DQ14T, DQ7T, DQ2T) (io), E19 IO, (DIFFIO_TX_T112n, DIFFOUT_T112n, DQ38T, DQ14T, DQ7T, DQ2T) (io), E20 IO, (DIFFIO_TX_T114n, DIFFOUT_T114n, DQ38T, DQ14T, DQ7T, DQ2T) (io), F17 IO, (DIFFIO_RX_T101n, DIFFOUT_T101n, DQSn34T, DQ12T, DQSn6T/DQ6T, DQ2T) (io), F20 IO, (DIFFIO_TX_T114p, DIFFOUT_T114p, DQ38T, DQ14T, DQ7T, DQ2T) (io), G16 IO, (DIFFIO_TX_T100p, DIFFOUT_T100p, DQ34T, DQ12T, DQ6T, DQ2T) (io), G17 IO, (DIFFIO_RX_T101p, DIFFOUT_T101p, DQS34T, DQ12T/CQn12T, DQS6T/CQ6T, DQ2T) (io), G18 IO, (DIFFIO_RX_T115n, DIFFOUT_T115n, DQ39T, DQ15T, DQ7T, DQ2T) (io), G19 IO, (DIFFIO_RX_T117n, DIFFOUT_T117n, DQSn39T, DQSn15T/DQ15T, DQ7T, DQ2T) (io), H16 IO, (DIFFIO_TX_T100n, DIFFOUT_T100n, DQ34T, DQ12T, DQ6T, DQ2T) (io), H18 IO, (DIFFIO_RX_T115p, DIFFOUT_T115p, DQ39T, DQ15T, DQ7T, DQ2T) (io), H19 IO, (DIFFIO_RX_T117p, DIFFOUT_T117p, DQS39T, DQS15T/CQ15T, DQ7T/CQn7T, DQ2T) (io), J16 IO, (DIFFIO_RX_T99p, DIFFOUT_T99p, DQS33T, DQS12T/CQ12T, DQ6T, DQ2T) (io), J17 IO, (DIFFIO_RX_T99n, DIFFOUT_T99n, DQSn33T, DQSn12T/DQ12T, DQ6T, DQ2T) (io), J18 IO, (DIFFIO_TX_T116n, DIFFOUT_T116n, DQ39T, DQ15T, DQ7T, DQ2T) (io), J19 IO, (DIFFIO_TX_T116p, DIFFOUT_T116p, DQ39T, DQ15T, DQ7T, DQ2T) (io), K16 IO, (DIFFIO_TX_T98n, DIFFOUT_T98n, DQ33T, DQ12T, DQ6T, DQ2T) (io), K17 IO, (DIFFIO_RX_T97n, DIFFOUT_T97n, DQ33T, DQ12T, DQ6T, DQ2T) (io), L16 IO, (DIFFIO_TX_T98p, DIFFOUT_T98p, DQ33T, DQ12T, DQ6T, DQ2T) (io), L17 IO, (DIFFIO_RX_T97p, DIFFOUT_T97p, DQ33T, DQ12T, DQ6T, DQ2T) (io), L18 IO, (DIFFIO_TX_T118n, DIFFOUT_T118n, DQ40T, DQ15T, DQ7T, DQ2T) (io), M17 IO, (DIFFIO_TX_T118p, DIFFOUT_T118p, DQ40T, DQ15T, DQ7T, DQ2T) (io), M18 IO, (DIFFIO_RX_T119p, DIFFOUT_T119p, DQS40T, DQ15T/CQn15T, DQ7T, DQ2T) (io), N16 IO, (DIFFIO_TX_T120p, DIFFOUT_T120p, DQ40T, DQ15T, DQ7T, DQ2T) (io), N17 IO, (DIFFIO_TX_T120n, DIFFOUT_T120n, DQ40T, DQ15T, DQ7T, DQ2T) (io), N18 IO, (DIFFIO_RX_T119n, DIFFOUT_T119n, DQSn40T, DQ15T, DQ7T, DQ2T) (io)
part K pins: A12 IO, (DIFFIO_RX_T89n, DIFFOUT_T89n, DQSn30T, DQ10T, DQSn5T/DQ5T) (io), A13 IO, (DIFFIO_TX_T88n, DIFFOUT_T88n, DQ30T, DQ10T, DQ5T) (io), B12 IO, (DIFFIO_RX_T89p, DIFFOUT_T89p, DQS30T, DQ10T/CQn10T, DQS5T/CQ5T) (io), B13 IO, (DIFFIO_TX_T88p, DIFFOUT_T88p, DQ30T, DQ10T, DQ5T) (io), C12 IO, CLK17p, (DIFFIO_RX_T85p, DIFFOUT_T85p, DQ29T, DQ10T, DQ5T) (io), C13 IO, CLK17n, (DIFFIO_RX_T85n, DIFFOUT_T85n, DQ29T, DQ10T, DQ5T) (io), C14 IO, (DIFFIO_TX_T90n, DIFFOUT_T90n, DQ30T, DQ10T, DQ5T) (io), D13 IO, (DIFFIO_TX_T86p, DIFFOUT_T86p, DQ29T, DQ10T, DQ5T) (io), D14 IO, (DIFFIO_TX_T90p, DIFFOUT_T90p, DQ30T, DQ10T, DQ5T) (io), E12 IO, (DIFFIO_TX_T86n, DIFFOUT_T86n, DQ29T, DQ10T, DQ5T) (io), E13 IO, CLK16n, (DIFFIO_RX_T87n, DIFFOUT_T87n, DQSn29T, DQSn10T/DQ10T, DQ5T) (io), E14 IO, CLK16p, (DIFFIO_RX_T87p, DIFFOUT_T87p, DQS29T, DQS10T/CQ10T, DQ5T) (io), G14 IO, (DIFFIO_RX_T91p, DIFFOUT_T91p, DQ31T, DQ11T, DQ5T) (io), G15 IO, (DIFFIO_RX_T91n, DIFFOUT_T91n, DQ31T, DQ11T, DQ5T) (io), H15 IO, (DIFFIO_RX_T93p, DIFFOUT_T93p, DQS31T, DQS11T/CQ11T, DQ5T/CQn5T) (io), J14 IO, (DIFFIO_TX_T92p, DIFFOUT_T92p, DQ31T, DQ11T, DQ5T) (io), J15 IO, (DIFFIO_RX_T93n, DIFFOUT_T93n, DQSn31T, DQSn11T/DQ11T, DQ5T) (io), K14 IO, (DIFFIO_TX_T92n, DIFFOUT_T92n, DQ31T, DQ11T, DQ5T) (io), L14 IO, (DIFFIO_RX_T95p, DIFFOUT_T95p, DQS32T, DQ11T/CQn11T, DQ5T) (io), L15 IO, (DIFFIO_TX_T96n, DIFFOUT_T96n, DQ32T, DQ11T, DQ5T) (io), M14 IO, (DIFFIO_RX_T95n, DIFFOUT_T95n, DQSn32T, DQ11T, DQ5T) (io), M15 IO, (DIFFIO_TX_T96p, DIFFOUT_T96p, DQ32T, DQ11T, DQ5T) (io), N14 IO, (DIFFIO_TX_T94p, DIFFOUT_T94p, DQ32T, DQ11T, DQ5T) (io), N15 IO, (DIFFIO_TX_T94n, DIFFOUT_T94n, DQ32T, DQ11T, DQ5T) (io)
part L pins: AA27 GXB_RX_L2p, GXB_REFCLK_L2p (in), AA28 GXB_RX_L2n, GXB_REFCLK_L2n (in), AB25 GXB_TX_L2p (out), AB26 GXB_TX_L2n (out), AC27 GXB_RX_L1p, GXB_REFCLK_L1p (in), AC28 GXB_RX_L1n, GXB_REFCLK_L1n (in), AD25 GXB_TX_L1p (out), AD26 GXB_TX_L1n (out), AE27 GXB_RX_L0p, GXB_REFCLK_L0p (in), AE28 GXB_RX_L0n, GXB_REFCLK_L0n (in), AF25 GXB_TX_L0p (out), AF26 GXB_TX_L0n (out), R22 REFCLK1Lp (in), R23 REFCLK1Ln (in), R27 GXB_RX_L5p, GXB_REFCLK_L5p (in), R28 GXB_RX_L5n, GXB_REFCLK_L5n (in), T25 GXB_TX_L5p (out), T26 GXB_TX_L5n (out), U23 REFCLK0Lp (in), U24 REFCLK0Ln (in), U27 GXB_RX_L4p, GXB_REFCLK_L4p (in), U28 GXB_RX_L4n, GXB_REFCLK_L4n (in), V25 GXB_TX_L4p (out), V26 GXB_TX_L4n (out), W27 GXB_RX_L3p, GXB_REFCLK_L3p (in), W28 GXB_RX_L3n, GXB_REFCLK_L3n (in), Y25 GXB_TX_L3p (out), Y26 GXB_TX_L3n (out)
part M pins: C27 GXB_RX_L11p, GXB_REFCLK_L11p (in), C28 GXB_RX_L11n, GXB_REFCLK_L11n (in), D25 GXB_TX_L11p (out), D26 GXB_TX_L11n (out), E27 GXB_RX_L10p, GXB_REFCLK_L10p (in), E28 GXB_RX_L10n, GXB_REFCLK_L10n (in), F25 GXB_TX_L10p (out), F26 GXB_TX_L10n (out), G27 GXB_RX_L9p, GXB_REFCLK_L9p (in), G28 GXB_RX_L9n, GXB_REFCLK_L9n (in), H25 GXB_TX_L9p (out), H26 GXB_TX_L9n (out), J27 GXB_RX_L8p, GXB_REFCLK_L8p (in), J28 GXB_RX_L8n, GXB_REFCLK_L8n (in), K25 GXB_TX_L8p (out), K26 GXB_TX_L8n (out), L22 REFCLK3Lp (in), L23 REFCLK3Ln (in), L27 GXB_RX_L7p, GXB_REFCLK_L7p (in), L28 GXB_RX_L7n, GXB_REFCLK_L7n (in), M25 GXB_TX_L7p (out), M26 GXB_TX_L7n (out), N23 REFCLK2Lp (in), N24 REFCLK2Ln (in), N27 GXB_RX_L6p, GXB_REFCLK_L6p (in), N28 GXB_RX_L6n, GXB_REFCLK_L6n (in), P25 GXB_TX_L6p (out), P26 GXB_TX_L6n (out)
part N pins: AA1 MSEL3 (in), AA21 TCK (in), AB1 CONF_DONE (io), AB21 DCLK (io), AB22 TDO (out), AD22 TDI (in), AD23 AS_DATA0, ASDO (io), AE23 nCSO (out), AF23 nCONFIG (in), J2 TEMPDIODEn (in), K2 TEMPDIODEp (in), P3 MSEL1 (in), R3 nCE (in), U2 nIO_PULLUP (in), U3 MSEL4 (in), V2 nSTATUS (io), V19 AS_DATA3 (io), W1 MSEL0 (in), W2 MSEL2 (in), W19 ~{TRST} (in), W20 AS_DATA2 (io), Y20 TMS (in), Y21 AS_DATA1 (io)
part O pins: A2 VCCIO7C (power), A5 VCCIO7C (power), A8 VCCIO7D (power), A11 VCCIO7D (power), A14 VCCIO8D (power), A17 VCCIO8C (power), A20 VCCIO8C (power), A23 VCCIO8A (power), AD1 VCCIO4A (power), AH5 VCCIO4D (power), AH8 VCCIO3D (power), AH14 VCCIO3B (power), AH17 VCCIO3B (power), AH20 VCCIO3A (power), AH24 VCCIO3A (power), E1 VCCIO7A (power), P12 VCC (power), P14 VCC (power), P16 VCC (power), P18 VCC (power), R11 VCC (power), R13 VCC (power), R15 VCC (power), R16 VCC (power), R17 VCC (power), R18 VCC (power), T12 VCC (power), T13 VCC (power), T14 VCC (power), T15 VCC (power), T17 VCC (power), U11 VCC (power), U15 VCC (power), U16 VCC (power), U18 VCC (power), V12 VCC (power), V13 VCC (power), V14 VCC (power), V15 VCC (power), V16 VCC (power), V17 VCC (power), W12 VCC (power), W14 VCC (power), W16 VCC (power), W18 VCC (power)
part P pins: AA15 VCCD_FPLL (power), AA22 VCCPGM (power), AB2 VCCA_FPLL (power), AB7 VREFB4DN0 (power), AB14 VCC_AUX (power), AB16 VREFB3BN0 (power), AB20 VREFB3AN0 (power), AB23 VCCA_FPLL (power), AC2 VCCD_FPLL (power), AC5 VREFB4AN0 (power), AC9 VREFB3DN0 (power), AC23 VCCD_FPLL (power), AE4 VCCPD4 (power), AF9 VCCPD3CD (power), AF18 VCCPD3AB (power), AF20 VCCPD3AB (power), C9 VCCPD7 (power), C21 VCCPD8 (power), D5 VCCPD7 (power), D16 VCCPD8 (power), E23 VCCD_FPLL (power), F2 VCCD_FPLL (power), F5 VREFB7AN0 (power), F9 VREFB7CN0 (power), F12 VREFB7DN0 (power), F15 VREFB8DN0 (power), F18 VREFB8CN0 (power), F21 VREFB8AN0 (power), F23 VCCA_FPLL (power), G2 VCCA_FPLL (power), G13 VCC_AUX (power), H13 VCCD_FPLL (power), J3 VCC_AUX (power), J13 VCCA_FPLL (power), J23 VCC_AUX (power), L7 VCCPT (power), L13 VCCPT (power), L20 VCCPT (power), L24 VCCA_GXBL1 (power), M5 VCCA_FPLL (power), M20 VCCHSSI_L (power), M22 VCCT_GXBL1 (power), M24 VCCH_GXBL1 (power), N5 VCCD_FPLL (power), N19 VCCHIP_L (power), N21 VCCA_FPLL (power), N22 VCCT_GXBL1 (power), P20 VCCHSSI_L (power), P21 VCCD_FPLL (power), P23 VCCR_GXBL1 (power), R5 VCCD_FPLL (power), R19 VCCHIP_L (power), R24 VCCA_GXBL0 (power), T5 VCCA_FPLL (power), T20 VCCHSSI_L (power), T21 VCCD_FPLL (power), T22 VCCT_GXBL0 (power), T24 VCCH_GXBL0 (power), U19 VCCHIP_L (power), U21 VCCA_FPLL (power), U22 VCCT_GXBL0 (power), V7 VCCPT (power), V20 VCCPT (power), V23 VCCR_GXBL0 (power), Y2 VCCPGM (power), Y3 VCC_AUX (power), Y4 VCCBAT (power), Y14 VCCPT (power), Y15 VCCA_FPLL (power), Y22 VCC_AUX (power)
part Q pins: A26 GND (power), B2 GND (power), B5 GND (power), B8 GND (power), B11 GND (power), B14 GND (power), B17 GND (power), B20 GND (power), B23 GND (power), B26 GND (power), B27 GND (power), B28 GND (power), C24 GND (power), C25 GND (power), C26 GND (power), D1 GND (power), D3 GND (power), D6 GND (power), D9 GND (power), D12 GND (power), D15 GND (power), D18 GND (power), D21 GND (power), D24 GND (power), D27 GND (power), D28 GND (power), E24 GND (power), E25 GND (power), E26 GND (power), F1 GND (power), F4 GND (power), F7 GND (power), F10 GND (power), F13 GND (power), F16 GND (power), F19 GND (power), F22 GND (power), F24 GND (power), F27 GND (power), F28 GND (power), G1 GND (power), G24 GND (power), G25 GND (power), G26 GND (power), H2 GND (power), H5 GND (power), H8 GND (power), H11 GND (power), H14 GND (power), H17 GND (power), H20 GND (power), H23 GND (power), H24 GND (power), H27 GND (power), H28 GND (power), J1 GND (power), J24 GND (power), J25 GND (power), J26 GND (power), K3 GND (power), K6 GND (power), K9 GND (power), K12 GND (power), K15 GND (power), K18 GND (power), K21 GND (power), K22 GND (power), K23 GND (power), K24 GND (power), K27 GND (power), K28 GND (power), L21 GND (power), L25 GND (power), L26 GND (power), M1 GND (power), M2 GND (power), M4 GND (power), M7 GND (power), M10 GND (power), M13 GND (power), M16 GND (power), M19 GND (power), M21 GND (power), M23 GND (power), M27 GND (power), M28 GND (power), N2 GND (power), N20 GND (power), N25 GND (power), N26 GND (power), P1 GND (power), P2 GND (power), P5 GND (power), P8 GND (power), P11 GND (power), P13 GND (power), P15 GND (power), P17 GND (power), P22 GND (power), P24 GND (power), P27 GND (power), P28 GND (power), R2 GND (power), R12 GND (power)
part R pins: AA2 GND (power), AA5 GND (power), AA8 GND (power), AA11 GND (power), AA14 GND (power), AA17 GND (power), AA20 GND (power), AA23 GND (power), AA24 GND (power), AA25 GND (power), AA26 GND (power), AB24 GND (power), AB27 GND (power), AB28 GND (power), AC1 GND (power), AC4 GND (power), AC7 GND (power), AC10 GND (power), AC13 GND (power), AC16 GND (power), AC19 GND (power), AC22 GND (power), AC24 GND (power), AC25 GND (power), AC26 GND (power), AD24 GND (power), AD27 GND (power), AD28 GND (power), AE3 GND (power), AE6 GND (power), AE9 GND (power), AE12 GND (power), AE15 GND (power), AE18 GND (power), AE21 GND (power), AE24 GND (power), AE25 GND (power), AE26 GND (power), AF1 GND (power), AF24 GND (power), AF27 GND (power), AF28 GND (power), AG2 GND (power), AG5 GND (power), AG8 GND (power), AG11 GND (power), AG14 GND (power), AG17 GND (power), AG20 GND (power), AG23 GND (power), AG24 GND (power), AG25 GND (power), AG26 GND (power), R14 GND (power), R21 GND (power), R25 GND (power), R26 GND (power), T3 GND (power), T6 GND (power), T9 GND (power), T11 GND (power), T16 GND (power), T18 GND (power), T23 GND (power), T27 GND (power), T28 GND (power), U1 GND (power), U4 GND (power), U7 GND (power), U12 GND (power), U14 GND (power), U17 GND (power), U20 GND (power), U25 GND (power), U26 GND (power), V1 GND (power), V11 GND (power), V18 GND (power), V21 GND (power), V22 GND (power), V24 GND (power), V27 GND (power), V28 GND (power), W3 GND (power), W6 GND (power), W9 GND (power), W11 GND (power), W13 GND (power), W15 GND (power), W17 GND (power), W21 GND (power), W22 GND (power), W23 GND (power), W24 GND (power), W25 GND (power), W26 GND (power), Y1 GND (power), Y18 GND (power), Y24 GND (power), Y27 GND (power), Y28 GND (power)
part S pins: A24 NC, A25 NC, A27 RREF_TL, AC14 DNU, AG27 DNU, AG28 RREF_BL, AH27 DNU, B24 NC, B25 NC, C8 NC, E3 NC, E4 NC, E21 NC, E22 NC, F14 DNU, G5 NC, G6 NC, H1 DNU, H22 NC, J20 NC, J22 NC, K1 NC, K4 NC, K5 NC, K20 NC, L4 NC, L5 NC, N1 RREF_TR, N3 NC, N4 NC, P4 NC, P19 NC, R1 RREF_BR, R20 NC, T1 DNU, T2 DNU, T19 NC, U13 DNU, Y23 DNU
part A text: BANK 3A
part B text: BANK 3B
part C text: BANK 3D
part D text: BANK 4A
part E text: BANK 4D
part F text: BANK 7A
part G text: BANK 7C
part H text: BANK 7D
part I text: BANK 8A
part J text: BANK 8C
part K text: BANK 8D

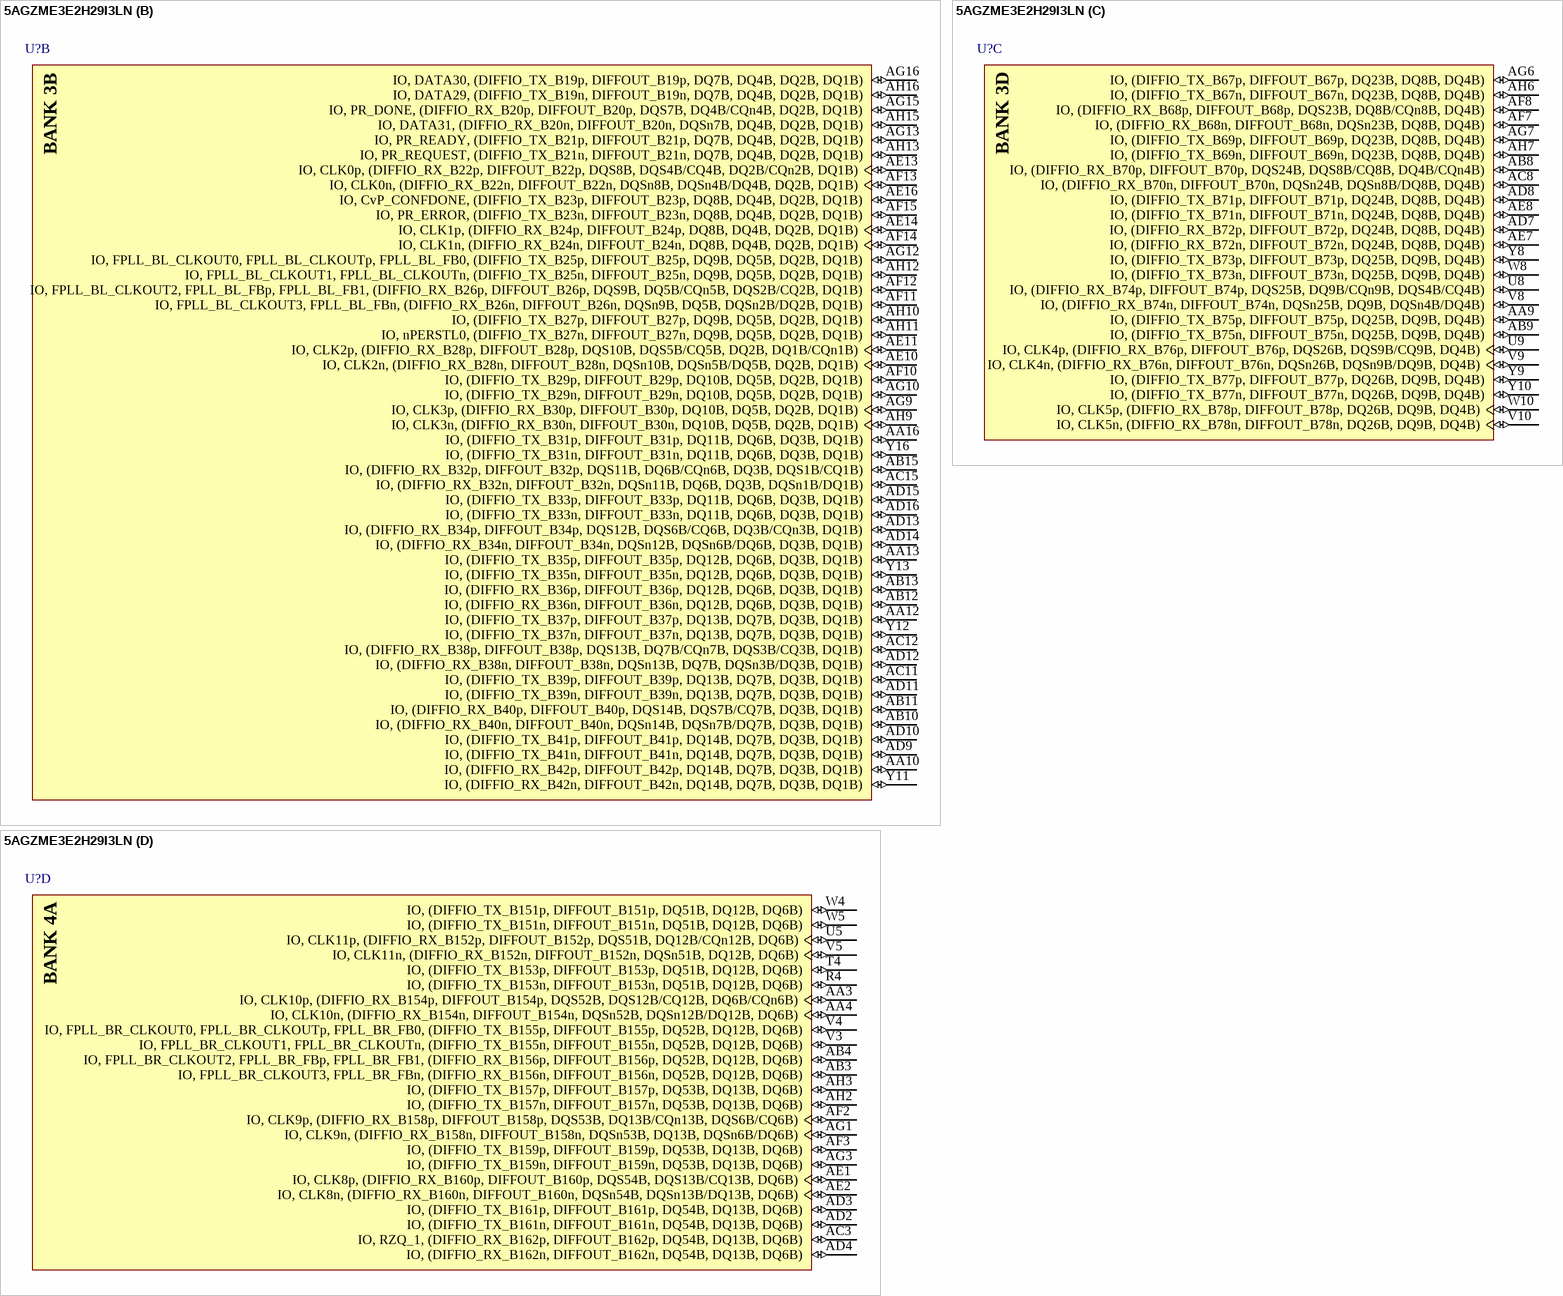
[diagram p42: symbol 5AGZME3E2H29I3LN]

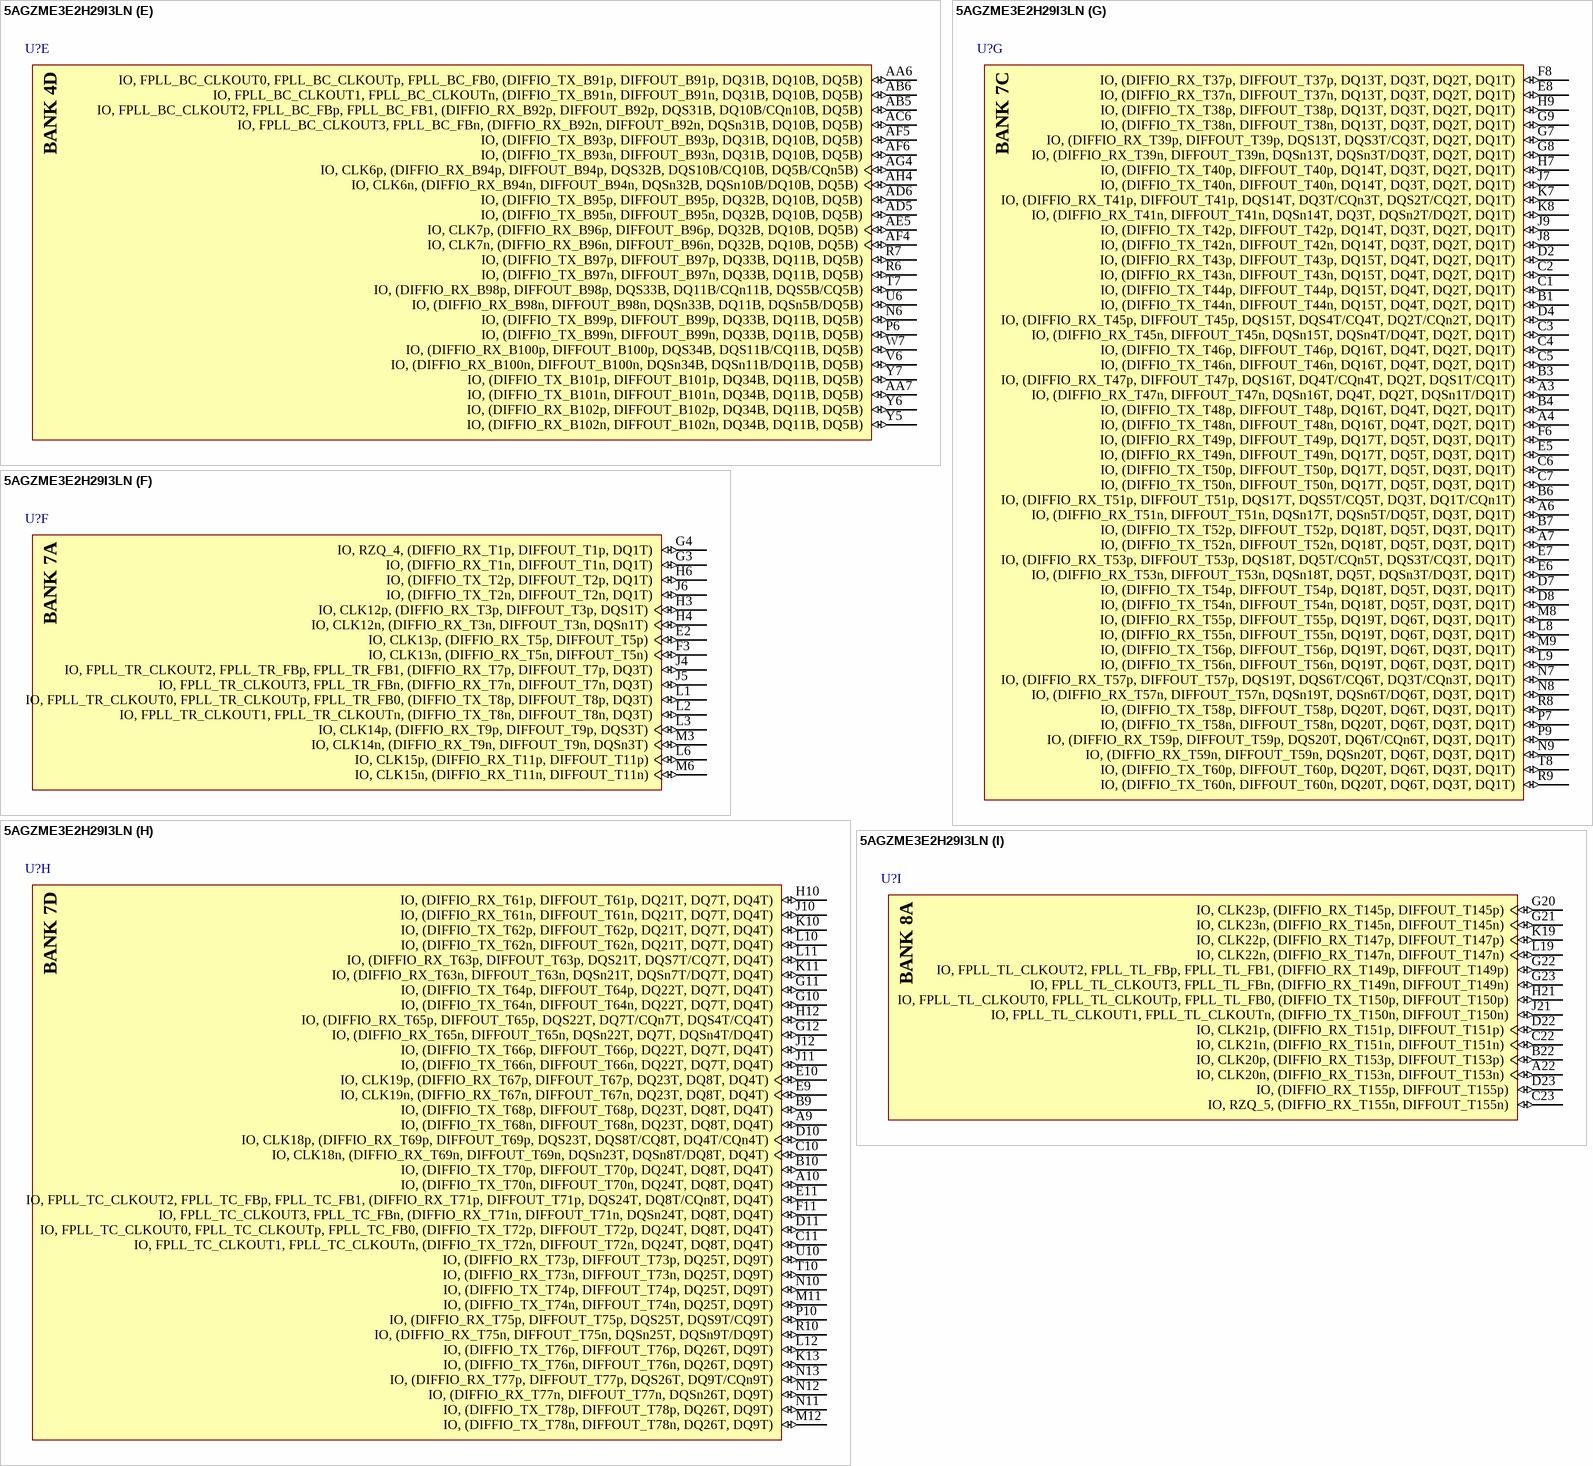
[diagram p43: symbol 5AGZME3E2H29I3LN]

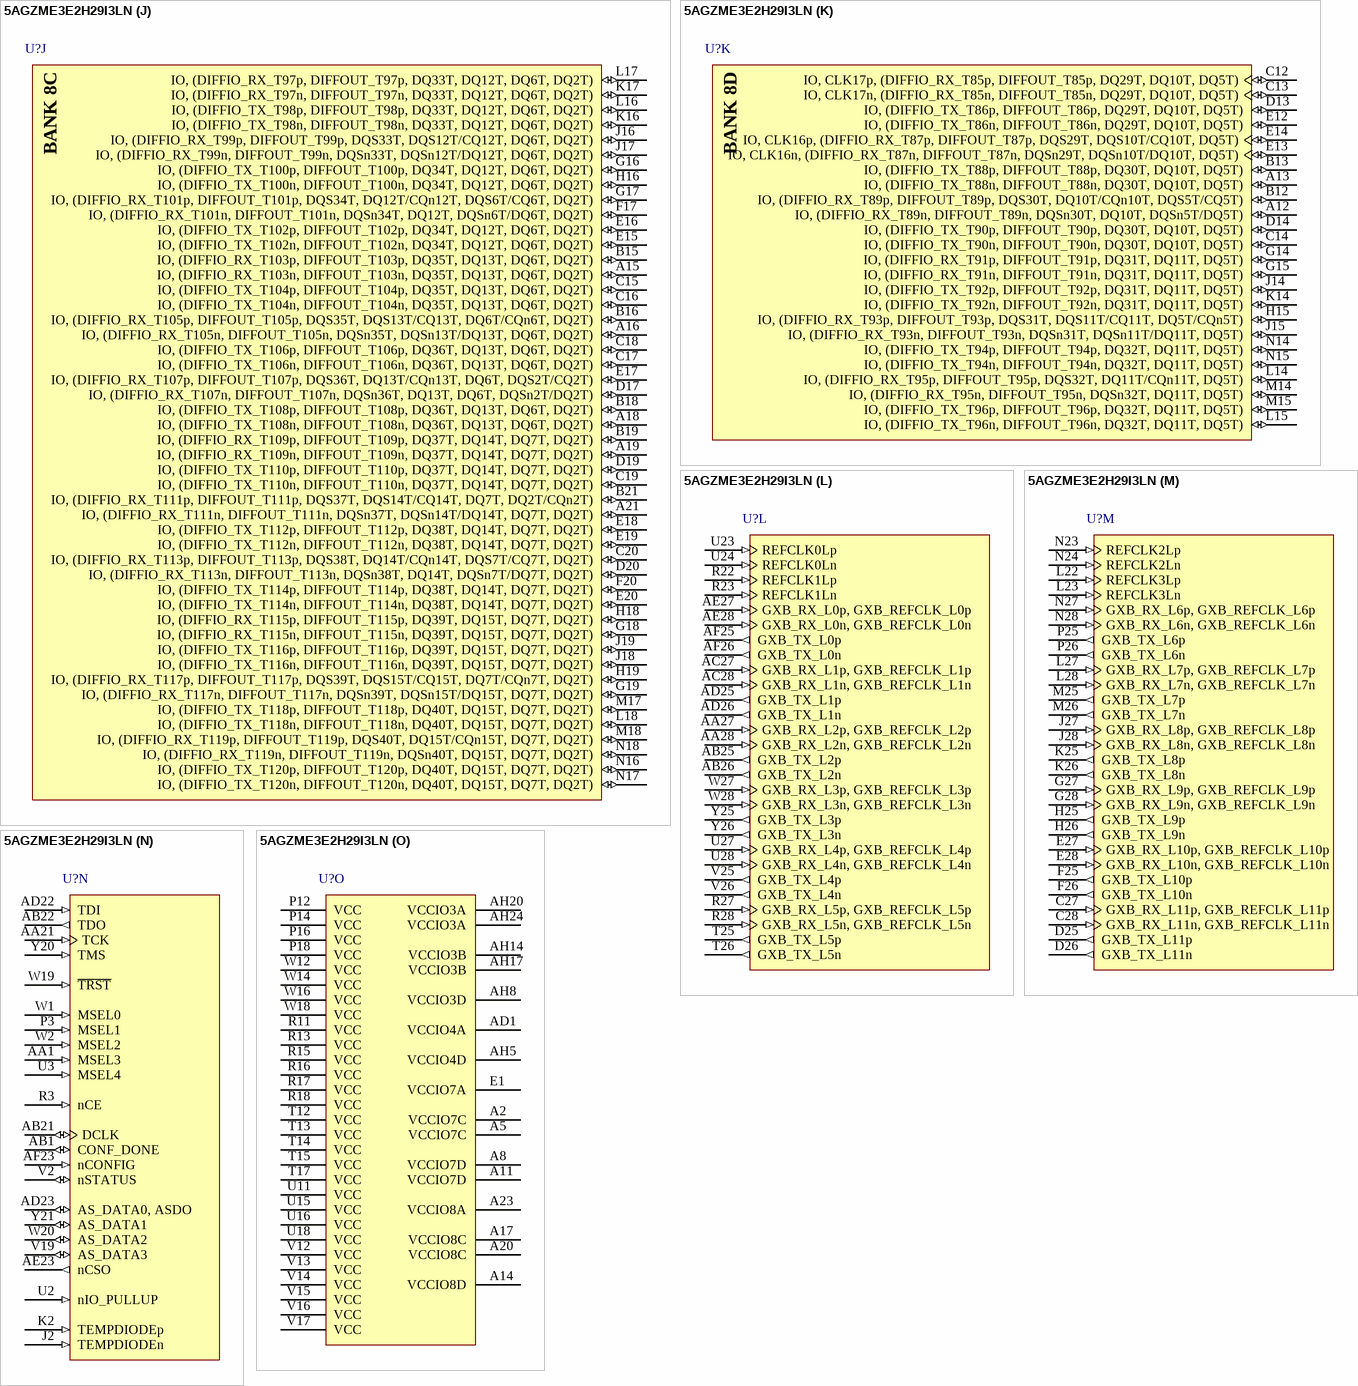
[diagram p44: symbol 5AGZME3E2H29I3LN]

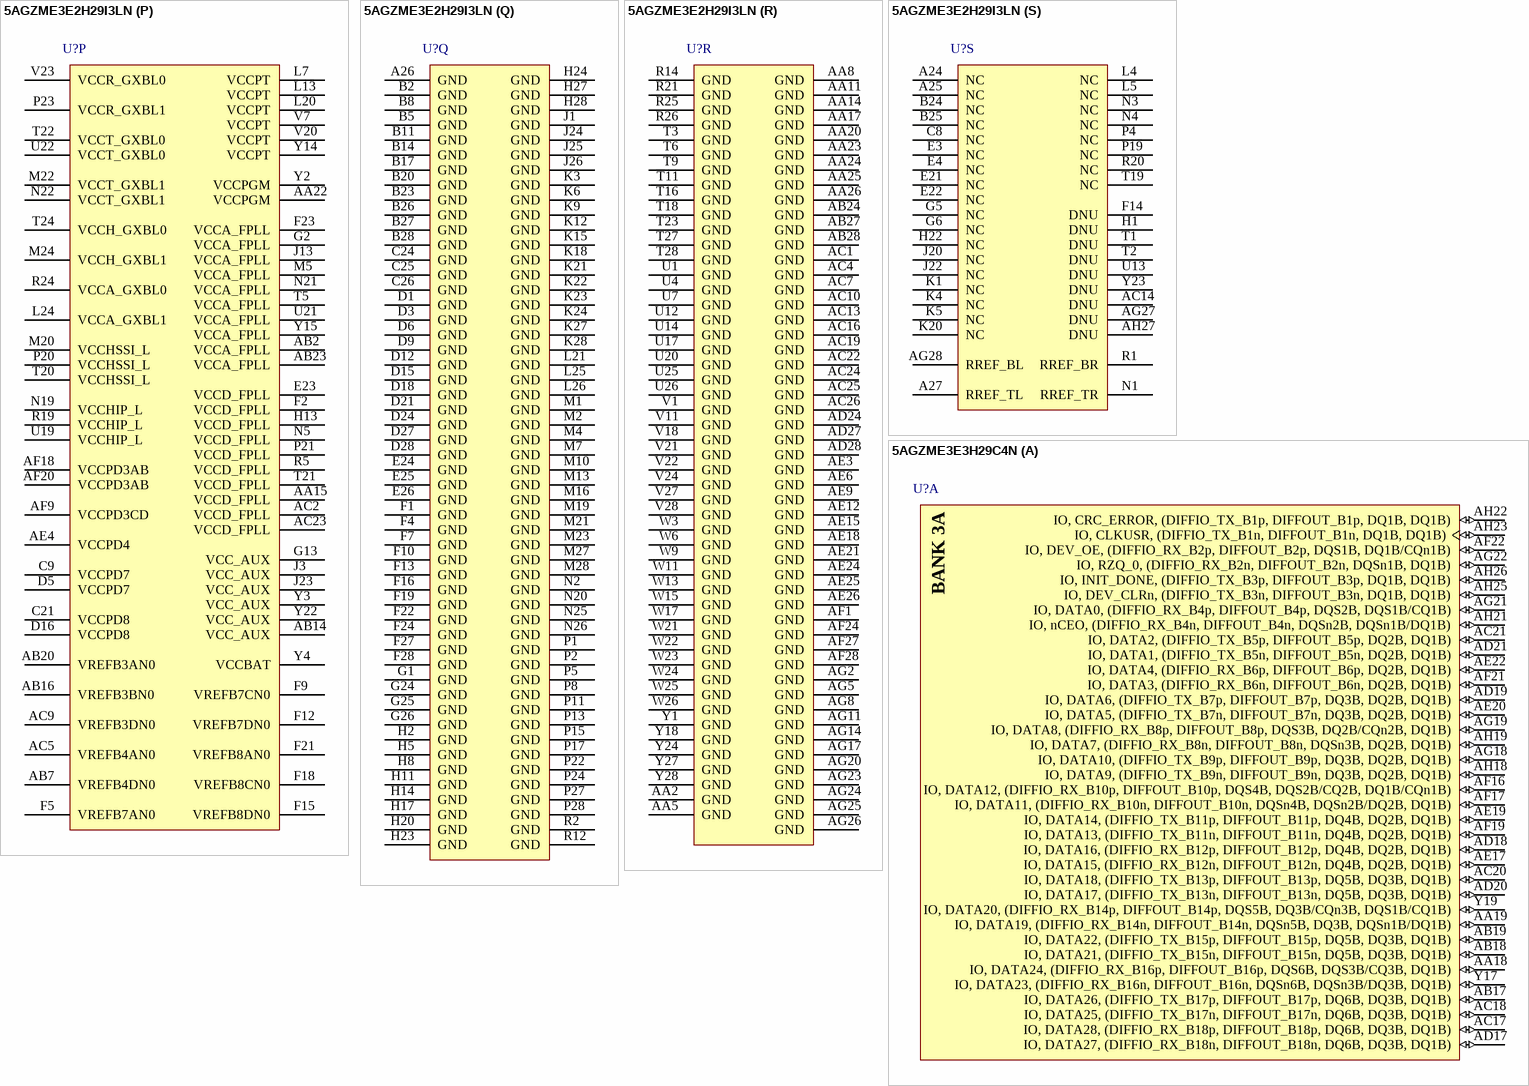
[diagram p45: symbols 5AGZME3E2H29I3LN to 5AGZME3E3H29C4N]